# Altium footprint library MergenElektronik_Resistors_ChipResistors.PCBLIB: 6 footprints
Each footprint in its own frame and in the unit in brackets; x right, y up, seen from the top. Pads: shape width x height; smd on the part's side, far side on the other; paste and mask are expansions set on the pad; w line width, h text height; cw(c..) or ccw(c..) is an arc to the next point about the centre after c.
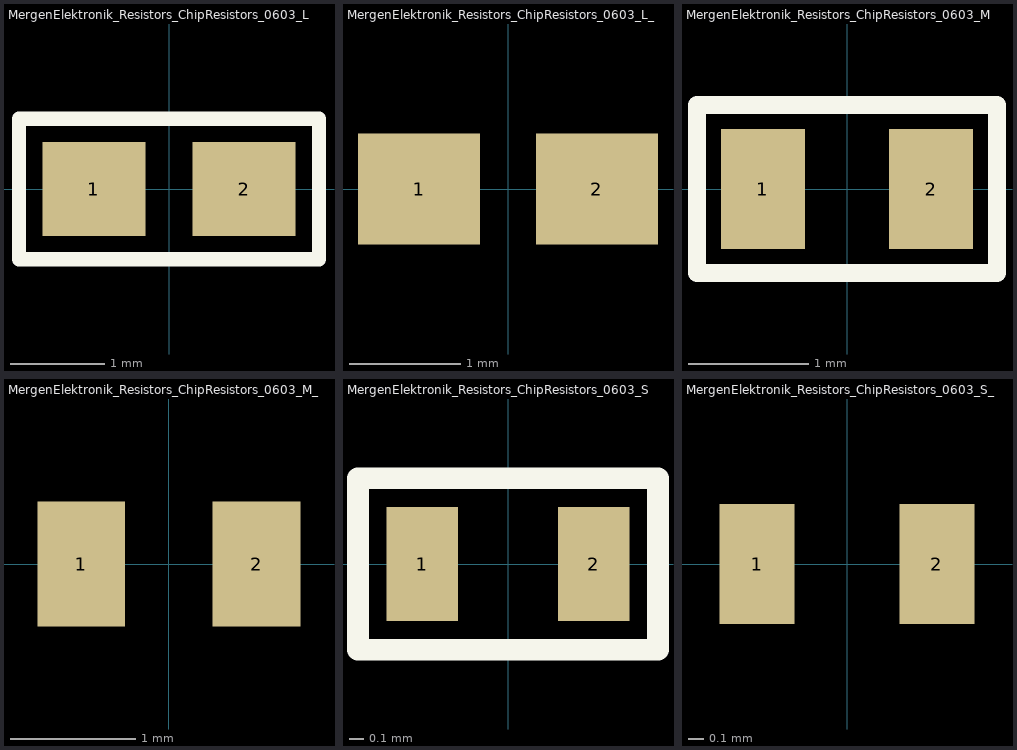
[diagram p0: the footprints below, top view; thin cyan lines are the x and y axes]

## MergenElektronik_Resistors_ChipResistors_0603_L [mm] "0603 Large"
pads (2):
  rect 1.1x1 smd: 1(-0.8,0) 2(0.8,0)
Top Overlay:
  lines w0.152: -1.6,-0.75 1.6,-0.75 1.6,0.75 -1.35,0.75 -1.6,0.75 -1.6,-0.75
3D body: height 0.45, standoff 0, extent -0.8,-0.4 0.8,0.4

## MergenElektronik_Resistors_ChipResistors_0603_L_NS [mm] "0603 Large - No Silkscreen"
pads (2):
  rect 1.1x1 smd: 1(-0.8,0) 2(0.8,0)
3D body: height 0.45, standoff 0, extent -0.8,-0.4 0.8,0.4

## MergenElektronik_Resistors_ChipResistors_0603_M [mm] "0603 Medium"
pads (2):
  rect 0.7x1 smd: 1(-0.7,0) 2(0.7,0)
Top Overlay:
  lines w0.152: -1.25,-0.7 1.25,-0.7 1.25,0.7 -1.25,0.7 -1.25,-0.7
3D body: height 0.45, standoff 0, extent -0.8,-0.4 0.8,0.4

## MergenElektronik_Resistors_ChipResistors_0603_M_NS [mm] "0603 Medium - No Silckscreen"
pads (2):
  rect 0.7x1 smd: 1(-0.7,0) 2(0.7,0)
3D body: height 0.45, standoff 0, extent -0.8,-0.4 0.8,0.4

## MergenElektronik_Resistors_ChipResistors_0603_S [mm] "0603 Small"
pads (2):
  rect 0.5x0.8 smd: 1(-0.6,0) 2(0.6,0)
Top Overlay:
  lines w0.152: -1.05,-0.6 1.05,-0.6 1.05,0.6 -1.05,0.6 -1.05,-0.6
3D body: height 0.45, standoff 0, extent -0.8,-0.4 0.8,0.4

## MergenElektronik_Resistors_ChipResistors_0603_S_NS [mm] "0603 Small - No Silkscreen"
pads (2):
  rect 0.5x0.8 smd: 1(-0.6,0) 2(0.6,0)
3D body: height 0.45, standoff 0, extent -0.8,-0.4 0.8,0.4